# Altium footprint library SN74CBT16233DGGR.PcbLib: 3 footprints
Each footprint in its own frame and in the unit in brackets; x right, y up, seen from the top. Pads: shape width x height; smd on the part's side, far side on the other; paste and mask are expansions set on the pad; w line width, h text height; cw(c..) or ccw(c..) is an arc to the next point about the centre after c.
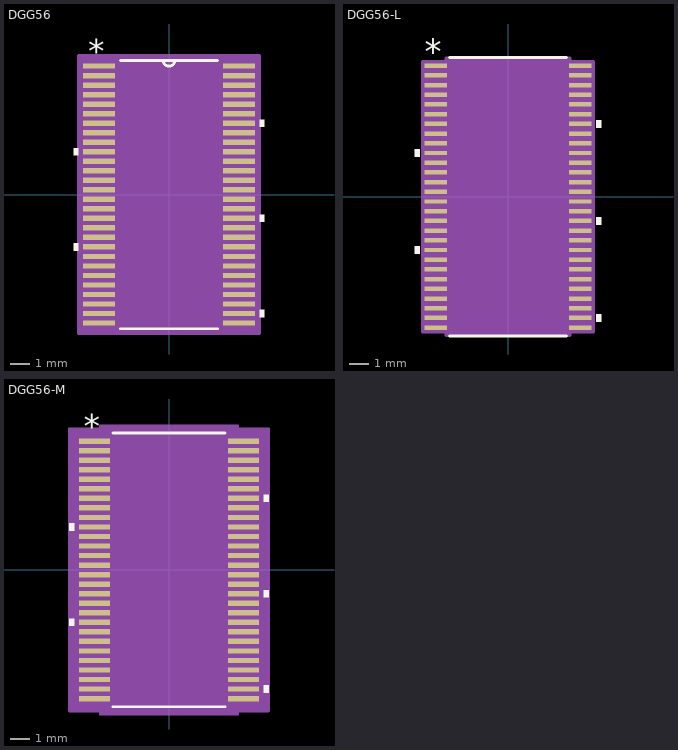
[diagram p0: the footprints below, top view; thin cyan lines are the x and y axes]

## DGG56 [mil]
pads (56):
  rect 66x11 smd paste-33 mask-33: 1(-144.5,265.75) 2(-144.5,246.06) 3(-144.5,226.38) 4(-144.5,206.69) 5(-144.5,187.01) 6(-144.5,167.32) 7(-144.5,147.64) 8(-144.5,127.95) 9(-144.5,108.27) 10(-144.5,88.58) 11(-144.5,68.9) 12(-144.5,49.21) 13(-144.5,29.53) 14(-144.5,9.84) 15(-144.5,-9.84) 16(-144.5,-29.53) 17(-144.5,-49.21) 18(-144.5,-68.9) 19(-144.5,-88.58) 20(-144.5,-108.27) 21(-144.5,-127.95) 22(-144.5,-147.64) 23(-144.5,-167.32) 24(-144.5,-187.01) 25(-144.5,-206.69) 26(-144.5,-226.38) 27(-144.5,-246.06) 28(-144.5,-265.75) 29(144.5,-265.75) 30(144.5,-246.06) 31(144.5,-226.38) 32(144.5,-206.69) 33(144.5,-187.01) 34(144.5,-167.32) 35(144.5,-147.64) 36(144.5,-127.95) 37(144.5,-108.27) 38(144.5,-88.58) 39(144.5,-68.9) 40(144.5,-49.21) 41(144.5,-29.53) 42(144.5,-9.84) 43(144.5,9.84) 44(144.5,29.53) 45(144.5,49.21) 46(144.5,68.9) 47(144.5,88.58) 48(144.5,108.27) 49(144.5,127.95) 50(144.5,147.64) 51(144.5,167.32) 52(144.5,187.01) 53(144.5,206.69) 54(144.5,226.38) 55(144.5,246.06) 56(144.5,265.75)
Top Overlay:
  region: -187.5,96.08 -197.5,96.08 -197.5,81.08 -187.5,81.08
  region: -187.5,-100.77 -197.5,-100.77 -197.5,-115.77 -187.5,-115.77
  region: 187.5,-238.56 197.5,-238.56 197.5,-253.56 187.5,-253.56
  region: 187.5,-41.71 197.5,-41.71 197.5,-56.71 187.5,-56.71
  region: 187.5,155.14 197.5,155.14 197.5,140.14 187.5,140.14
  lines w6: -99.99,-277.5 99.99,-277.5 ; -99.99,277.5 99.99,277.5 ; -12,277.5 ccw(c0,277.5) 12,277.5
  text "*" at -167,271.75 h50
Mechanical 13:
  drawing of 229 lines, arcs and shapes, not listed
  text "*" at -167,271.75 h50
Mechanical 15:
  region: 187.5,-287.5 -187.5,-287.5 -187.5,287.5 187.5,287.5
  lines w6: -187.5,-287.5 -187.5,287.5 187.5,287.5 187.5,-287.5 -187.5,-287.5
3D body "DGG56.step": height 47.09, standoff 0, extent -163.5,-277.48 163.5,277.48

## DGG56-L [mil]
pads (56):
  rect 46x9 smd paste+0 mask+0: 1(-146.5,265.75) 2(-146.5,246.06) 3(-146.5,226.38) 4(-146.5,206.69) 5(-146.5,187.01) 6(-146.5,167.32) 7(-146.5,147.64) 8(-146.5,127.95) 9(-146.5,108.27) 10(-146.5,88.58) 11(-146.5,68.9) 12(-146.5,49.21) 13(-146.5,29.53) 14(-146.5,9.84) 15(-146.5,-9.84) 16(-146.5,-29.53) 17(-146.5,-49.21) 18(-146.5,-68.9) 19(-146.5,-88.58) 20(-146.5,-108.27) 21(-146.5,-127.95) 22(-146.5,-147.64) 23(-146.5,-167.32) 24(-146.5,-187.01) 25(-146.5,-206.69) 26(-146.5,-226.38) 27(-146.5,-246.06) 28(-146.5,-265.75) 29(146.5,-265.75) 30(146.5,-246.06) 31(146.5,-226.38) 32(146.5,-206.69) 33(146.5,-187.01) 34(146.5,-167.32) 35(146.5,-147.64) 36(146.5,-127.95) 37(146.5,-108.27) 38(146.5,-88.58) 39(146.5,-68.9) 40(146.5,-49.21) 41(146.5,-29.53) 42(146.5,-9.84) 43(146.5,9.84) 44(146.5,29.53) 45(146.5,49.21) 46(146.5,68.9) 47(146.5,88.58) 48(146.5,108.27) 49(146.5,127.95) 50(146.5,147.64) 51(146.5,167.32) 52(146.5,187.01) 53(146.5,206.69) 54(146.5,226.38) 55(146.5,246.06) 56(146.5,265.75)
Top Overlay:
  region: -179.5,96.08 -189.5,96.08 -189.5,81.08 -179.5,81.08
  region: -179.5,-100.77 -189.5,-100.77 -189.5,-115.77 -179.5,-115.77
  region: 179.5,-238.56 189.5,-238.56 189.5,-253.56 179.5,-253.56
  region: 179.5,-41.71 189.5,-41.71 189.5,-56.71 179.5,-56.71
  region: 179.5,155.14 189.5,155.14 189.5,140.14 179.5,140.14
  lines w6: -118.86,-282.5 118.86,-282.5 ; -118.86,282.5 118.86,282.5
  text "*" at -169,269.75 h50
Mechanical 13:
  drawing of 229 lines, arcs and shapes, not listed
  text "*" at -119.5,224.5 h50
Mechanical 15:
  region: -126,-274.25 -173.5,-274.25 -173.5,274.25 -126,274.25 -126,281.5 126,281.5 126,274.25 173.5,274.25 173.5,-274.25 126,-274.25 126,-281.5 -126,-281.5
  lines w6: -173.5,-274.25 -173.5,274.25 -126,274.25 -126,281.5 126,281.5 126,274.25 173.5,274.25 173.5,-274.25 126,-274.25 126,-281.5 -126,-281.5 -126,-274.25 -173.5,-274.25
3D body "DGG56.step": height 47.09, standoff 0, extent -163.5,-277.48 163.5,277.48

## DGG56-M [mil]
pads (56):
  rect 63.5x11 smd paste+0 mask+0: 1(-153.75,265.75) 2(-153.75,246.06) 3(-153.75,226.38) 4(-153.75,206.69) 5(-153.75,187.01) 6(-153.75,167.32) 7(-153.75,147.64) 8(-153.75,127.95) 9(-153.75,108.27) 10(-153.75,88.58) 11(-153.75,68.9) 12(-153.75,49.21) 13(-153.75,29.53) 14(-153.75,9.84) 15(-153.75,-9.84) 16(-153.75,-29.53) 17(-153.75,-49.21) 18(-153.75,-68.9) 19(-153.75,-88.58) 20(-153.75,-108.27) 21(-153.75,-127.95) 22(-153.75,-147.64) 23(-153.75,-167.32) 24(-153.75,-187.01) 25(-153.75,-206.69) 26(-153.75,-226.38) 27(-153.75,-246.06) 28(-153.75,-265.75) 29(153.75,-265.75) 30(153.75,-246.06) 31(153.75,-226.38) 32(153.75,-206.69) 33(153.75,-187.01) 34(153.75,-167.32) 35(153.75,-147.64) 36(153.75,-127.95) 37(153.75,-108.27) 38(153.75,-88.58) 39(153.75,-68.9) 40(153.75,-49.21) 41(153.75,-29.53) 42(153.75,-9.84) 43(153.75,9.84) 44(153.75,29.53) 45(153.75,49.21) 46(153.75,68.9) 47(153.75,88.58) 48(153.75,108.27) 49(153.75,127.95) 50(153.75,147.64) 51(153.75,167.32) 52(153.75,187.01) 53(153.75,206.69) 54(153.75,226.38) 55(153.75,246.06) 56(153.75,265.75)
Top Overlay:
  region: -195.5,96.08 -205.5,96.08 -205.5,81.08 -195.5,81.08
  region: -195.5,-100.77 -205.5,-100.77 -205.5,-115.77 -195.5,-115.77
  region: 195.5,-238.56 205.5,-238.56 205.5,-253.56 195.5,-253.56
  region: 195.5,-41.71 205.5,-41.71 205.5,-56.71 195.5,-56.71
  region: 195.5,155.14 205.5,155.14 205.5,140.14 195.5,140.14
  lines w6: -115.29,-282.5 115.29,-282.5 ; -115.29,282.5 115.29,282.5
  text "*" at -176.25,271.75 h50
Mechanical 13:
  drawing of 229 lines, arcs and shapes, not listed
  text "*" at -119.5,224.5 h50
Mechanical 15:
  region: -142,-291.25 -205.5,-291.25 -205.5,291.25 -142,291.25 -142,297.5 142,297.5 142,291.25 205.5,291.25 205.5,-291.25 142,-291.25 142,-297.5 -142,-297.5
  lines w6: -205.5,-291.25 -205.5,291.25 -142,291.25 -142,297.5 142,297.5 142,291.25 205.5,291.25 205.5,-291.25 142,-291.25 142,-297.5 -142,-297.5 -142,-291.25 -205.5,-291.25
3D body "DGG56.step": height 47.09, standoff 0, extent -163.5,-277.48 163.5,277.48